# Altium integrated library Big_Library_Battery_Holder.IntLib: 1 symbol
Pins are listed as number, name and electrical type; pins without a type are passive.

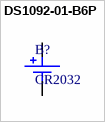
[diagram p0: symbol DS1092-01-B6P]

## DS1092-01-B6P
designator B?, comment CR2032
BATTERY HOLDER FOR CR2032 VERTICAL CONNFLY; ComponentLink1Description: Link1; ComponentLink1URL: https://ozdisan.com/batteries/battery-accessories/battery-holders/DS1092-01-B6P/426149; ComponentLink2Description: Link2; ComponentLink2URL: *
footprint DS1092-THT (Confly DS1092 THT Holder)
pins: 1 +, 2 -